# EAGLE library part EP2C5T144 (library fpgas)
EP2C5T144 Auto generated by make-symbol-device-package-bsdl.ulp Rev. 19 Tip: Use split-device-symbol.ulp to generate a Device with multiple small symbols! Read HELP. Source: EP2C5T144.BSD
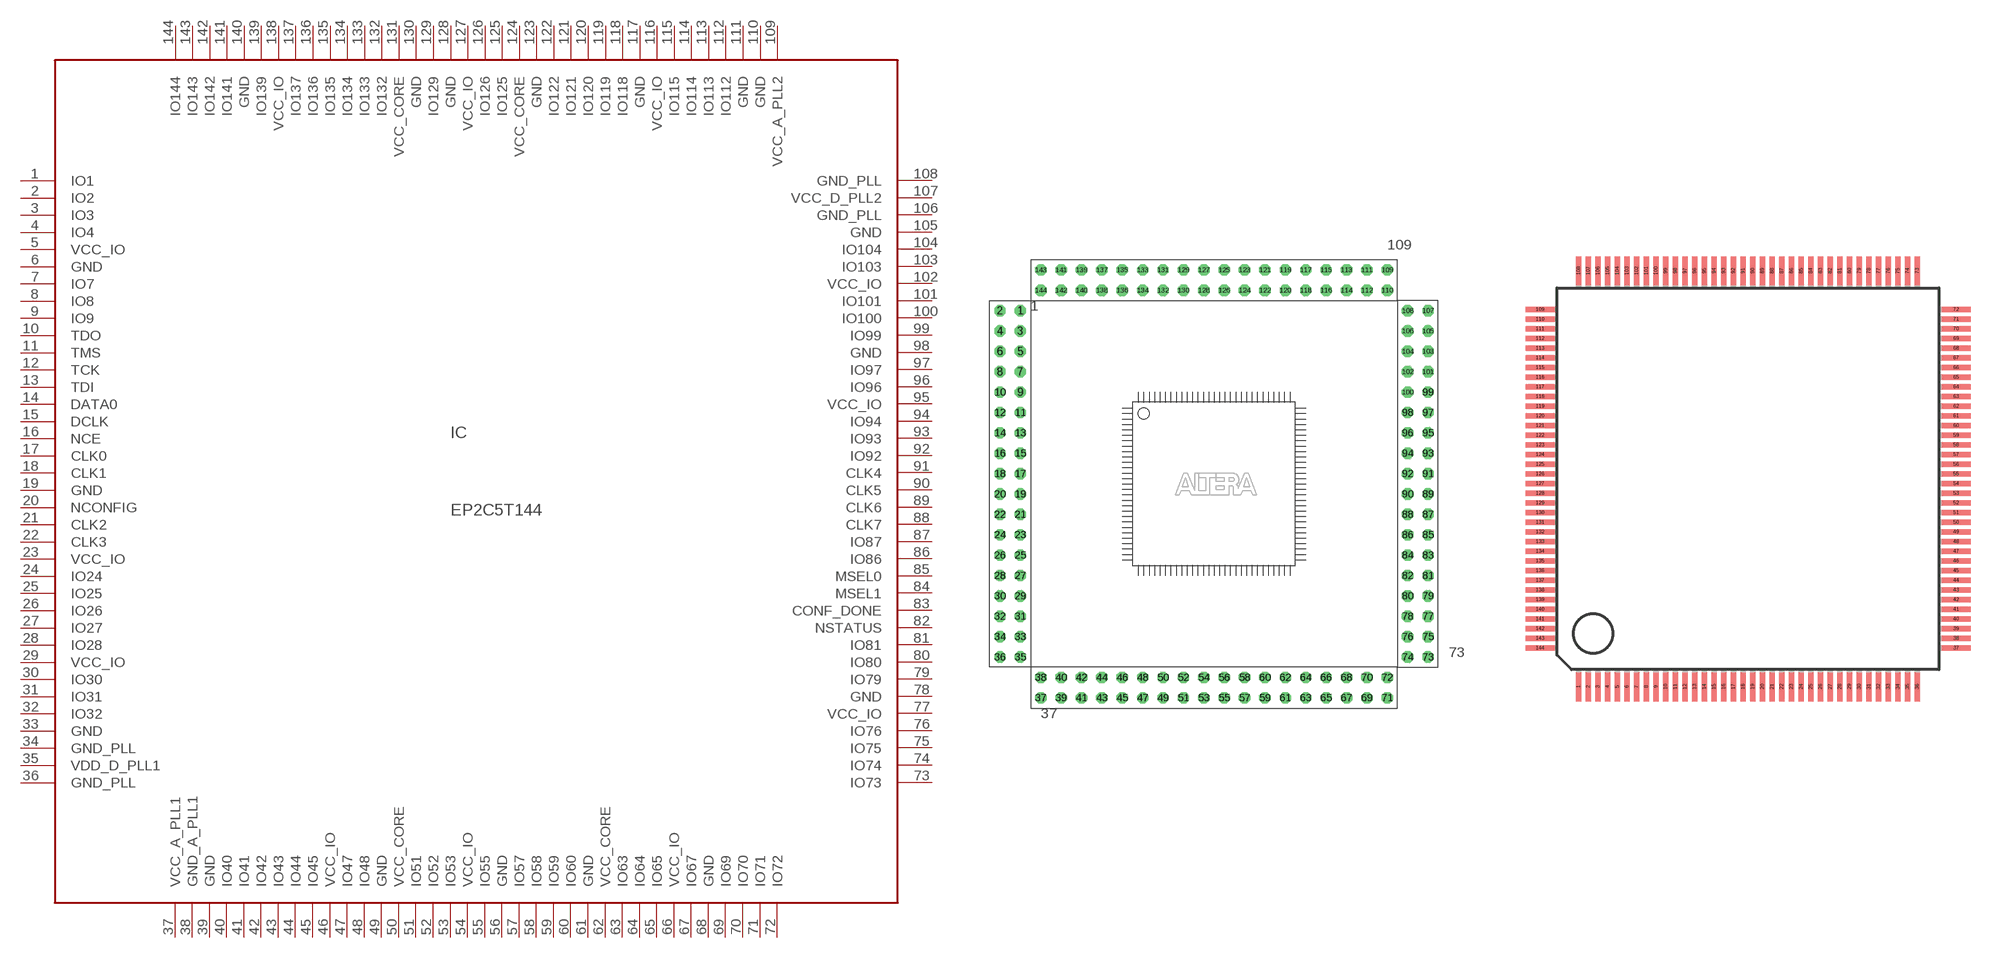
[diagram p2: symbol with the pads of DIP144; footprints DIP144, TQFP144]

Designator prefix IC

## EP2C5T144DIP  [DIP144]
1  IO1  out
2  IO2  out
3  IO3
4  IO4
5  VCC_IO  pwr
6  GND  pwr
7  IO7
8  IO8
9  IO9
10  TDO  out
11  TMS  in
12  TCK  in
13  TDI  in
14  DATA0
15  DCLK
16  NCE  in
17  CLK0
18  CLK1
19  GND  pwr
20  NCONFIG  in
21  CLK2
22  CLK3
23  VCC_IO  pwr
24  IO24
25  IO25
26  IO26
27  IO27
28  IO28
29  VCC_IO  pwr
30  IO30
31  IO31
32  IO32
33  GND  pwr
34  GND_PLL  pwr
35  VDD_D_PLL1  pwr
36  GND_PLL  pwr
37  VCC_A_PLL1  pwr
38  GND_A_PLL1  pwr
39  GND  pwr
40  IO40
41  IO41
42  IO42
43  IO43
44  IO44
45  IO45
46  VCC_IO  pwr
47  IO47
48  IO48
49  GND  pwr
50  VCC_CORE  pwr
51  IO51
52  IO52
53  IO53
54  VCC_IO  pwr
55  IO55
56  GND  pwr
57  IO57
58  IO58
59  IO59
60  IO60
61  GND  pwr
62  VCC_CORE  pwr
63  IO63
64  IO64
65  IO65
66  VCC_IO  pwr
67  IO67
68  GND  pwr
69  IO69
70  IO70
71  IO71
72  IO72
73  IO73
74  IO74
75  IO75
76  IO76
77  VCC_IO  pwr
78  GND  pwr
79  IO79
80  IO80
81  IO81
82  NSTATUS  in
83  CONF_DONE  in
84  MSEL1  in
85  MSEL0  in
86  IO86
87  IO87
88  CLK7
89  CLK6
90  CLK5
91  CLK4
92  IO92
93  IO93
94  IO94
95  VCC_IO  pwr
96  IO96
97  IO97
98  GND  pwr
99  IO99
100  IO100
101  IO101
102  VCC_IO  pwr
103  IO103
104  IO104
105  GND  pwr
106  GND_PLL  pwr
107  VCC_D_PLL2  pwr
108  GND_PLL  pwr
109  VCC_A_PLL2  pwr
110  GND  pwr
111  GND  pwr
112  IO112
113  IO113
114  IO114
115  IO115
116  VCC_IO  pwr
117  GND  pwr
118  IO118
119  IO119
120  IO120
121  IO121
122  IO122
123  GND  pwr
124  VCC_CORE  pwr
125  IO125
126  IO126
127  VCC_IO  pwr
128  GND  pwr
129  IO129
130  GND  pwr
131  VCC_CORE  pwr
132  IO132
133  IO133
134  IO134
135  IO135
136  IO136
137  IO137
138  VCC_IO  pwr
139  IO139
140  GND  pwr
141  IO141
142  IO142
143  IO143
144  IO144

## EP2C5T144TQFP (MPN: EP2C5T144C8N; OC_FARNELL: 1453495; OC_NEWARK: 51R0568)  [TQFP144]
1  VCC_A_PLL1  pwr
2  GND_A_PLL1  pwr
3  GND  pwr
4  IO40
5  IO41
6  IO42
7  IO43
8  IO44
9  IO45
10  VCC_IO  pwr
11  IO47
12  IO48
13  GND  pwr
14  VCC_CORE  pwr
15  IO51
16  IO52
17  IO53
18  VCC_IO  pwr
19  IO55
20  GND  pwr
21  IO57
22  IO58
23  IO59
24  IO60
25  GND  pwr
26  VCC_CORE  pwr
27  IO63
28  IO64
29  IO65
30  VCC_IO  pwr
31  IO67
32  GND  pwr
33  IO69
34  IO70
35  IO71
36  IO72
37  IO73
38  IO74
39  IO75
40  IO76
41  VCC_IO  pwr
42  GND  pwr
43  IO79
44  IO80
45  IO81
46  NSTATUS  in
47  CONF_DONE  in
48  MSEL1  in
49  MSEL0  in
50  IO86
51  IO87
52  CLK7
53  CLK6
54  CLK5
55  CLK4
56  IO92
57  IO93
58  IO94
59  VCC_IO  pwr
60  IO96
61  IO97
62  GND  pwr
63  IO99
64  IO100
65  IO101
66  VCC_IO  pwr
67  IO103
68  IO104
69  GND  pwr
70  GND_PLL  pwr
71  VCC_D_PLL2  pwr
72  GND_PLL  pwr
73  VCC_A_PLL2  pwr
74  GND  pwr
75  GND  pwr
76  IO112
77  IO113
78  IO114
79  IO115
80  VCC_IO  pwr
81  GND  pwr
82  IO118
83  IO119
84  IO120
85  IO121
86  IO122
87  GND  pwr
88  VCC_CORE  pwr
89  IO125
90  IO126
91  VCC_IO  pwr
92  GND  pwr
93  IO129
94  GND  pwr
95  VCC_CORE  pwr
96  IO132
97  IO133
98  IO134
99  IO135
100  IO136
101  IO137
102  VCC_IO  pwr
103  IO139
104  GND  pwr
105  IO141
106  IO142
107  IO143
108  IO144
109  IO1  out
110  IO2  out
111  IO3
112  IO4
113  VCC_IO  pwr
114  GND  pwr
115  IO7
116  IO8
117  IO9
118  TDO  out
119  TMS  in
120  TCK  in
121  TDI  in
122  DATA0
123  DCLK
124  NCE  in
125  CLK0
126  CLK1
127  GND  pwr
128  NCONFIG  in
129  CLK2
130  CLK3
131  VCC_IO  pwr
132  IO24
133  IO25
134  IO26
135  IO27
136  IO28
137  VCC_IO  pwr
138  IO30
139  IO31
140  IO32
141  GND  pwr
142  GND_PLL  pwr
143  VDD_D_PLL1  pwr
144  GND_PLL  pwr

## Footprint DIP144 (pad centres in mm)
drill 0.6 pad 1.422 octagon: 1 -24.13,21.59; 2 -26.67,21.59; 3 -24.13,19.05; 4 -26.67,19.05; 5 -24.13,16.51; 6 -26.67,16.51; 7 -24.13,13.97; 8 -26.67,13.97; 9 -24.13,11.43; 10 -26.67,11.43; 11 -24.13,8.89; 12 -26.67,8.89; 13 -24.13,6.35; 14 -26.67,6.35; 15 -24.13,3.81; 16 -26.67,3.81; 17 -24.13,1.27; 18 -26.67,1.27; 19 -24.13,-1.27; 20 -26.67,-1.27; 21 -24.13,-3.81; 22 -26.67,-3.81; 23 -24.13,-6.35; 24 -26.67,-6.35; 25 -24.13,-8.89; 26 -26.67,-8.89; 27 -24.13,-11.43; 28 -26.67,-11.43; 29 -24.13,-13.97; 30 -26.67,-13.97; 31 -24.13,-16.51; 32 -26.67,-16.51; 33 -24.13,-19.05; 34 -26.67,-19.05; 35 -24.13,-21.59; 36 -26.67,-21.59; 37 -21.59,-26.67; 38 -21.59,-24.13; 39 -19.05,-26.67; 40 -19.05,-24.13; 41 -16.51,-26.67; 42 -16.51,-24.13; 43 -13.97,-26.67; 44 -13.97,-24.13; 45 -11.43,-26.67; 46 -11.43,-24.13; 47 -8.89,-26.67; 48 -8.89,-24.13; 49 -6.35,-26.67; 50 -6.35,-24.13; 51 -3.81,-26.67; 52 -3.81,-24.13; 53 -1.27,-26.67; 54 -1.27,-24.13; 55 1.27,-26.67; 56 1.27,-24.13; 57 3.81,-26.67; 58 3.81,-24.13; 59 6.35,-26.67; 60 6.35,-24.13; 61 8.89,-26.67; 62 8.89,-24.13; 63 11.43,-26.67; 64 11.43,-24.13; 65 13.97,-26.67; 66 13.97,-24.13; 67 16.51,-26.67; 68 16.51,-24.13; 69 19.05,-26.67; 70 19.05,-24.13; 71 21.59,-26.67; 72 21.59,-24.13; 73 26.67,-21.59; 74 24.13,-21.59; 75 26.67,-19.05; 76 24.13,-19.05; 77 26.67,-16.51; 78 24.13,-16.51; 79 26.67,-13.97; 80 24.13,-13.97; 81 26.67,-11.43; 82 24.13,-11.43; 83 26.67,-8.89; 84 24.13,-8.89; 85 26.67,-6.35; 86 24.13,-6.35; 87 26.67,-3.81; 88 24.13,-3.81; 89 26.67,-1.27; 90 24.13,-1.27; 91 26.67,1.27; 92 24.13,1.27; 93 26.67,3.81; 94 24.13,3.81; 95 26.67,6.35; 96 24.13,6.35; 97 26.67,8.89; 98 24.13,8.89; 99 26.67,11.43; 100 24.13,11.43; 101 26.67,13.97; 102 24.13,13.97; 103 26.67,16.51; 104 24.13,16.51; 105 26.67,19.05; 106 24.13,19.05; 107 26.67,21.59; 108 24.13,21.59; 109 21.59,26.67; 110 21.59,24.13; 111 19.05,26.67; 112 19.05,24.13; 113 16.51,26.67; 114 16.51,24.13; 115 13.97,26.67; 116 13.97,24.13; 117 11.43,26.67; 118 11.43,24.13; 119 8.89,26.67; 120 8.89,24.13; 121 6.35,26.67; 122 6.35,24.13; 123 3.81,26.67; 124 3.81,24.13; 125 1.27,26.67; 126 1.27,24.13; 127 -1.27,26.67; 128 -1.27,24.13; 129 -3.81,26.67; 130 -3.81,24.13; 131 -6.35,26.67; 132 -6.35,24.13; 133 -8.89,26.67; 134 -8.89,24.13; 135 -11.43,26.67; 136 -11.43,24.13; 137 -13.97,26.67; 138 -13.97,24.13; 139 -16.51,26.67; 140 -16.51,24.13; 141 -19.05,26.67; 142 -19.05,24.13; 143 -21.59,26.67; 144 -21.59,24.13

## Footprint TQFP144 (pad centres in mm)
Thin Quad Flat Pack
smd 0.27 x 1.5: 1 -8.75,-10.75; 2 -8.25,-10.75; 3 -7.75,-10.75; 4 -7.25,-10.75; 5 -6.75,-10.75; 6 -6.25,-10.75; 7 -5.75,-10.75; 8 -5.25,-10.75; 9 -4.75,-10.75; 10 -4.25,-10.75; 11 -3.75,-10.75; 12 -3.25,-10.75; 13 -2.75,-10.75; 14 -2.25,-10.75; 15 -1.75,-10.75; 16 -1.25,-10.75; 17 -0.75,-10.75; 18 -0.25,-10.75; 19 0.25,-10.75; 20 0.75,-10.75; 21 1.25,-10.75; 22 1.75,-10.75; 23 2.25,-10.75; 24 2.75,-10.75; 25 3.25,-10.75; 26 3.75,-10.75; 27 4.25,-10.75; 28 4.75,-10.75; 29 5.25,-10.75; 30 5.75,-10.75; 31 6.25,-10.75; 32 6.75,-10.75; 33 7.25,-10.75; 34 7.75,-10.75; 35 8.25,-10.75; 36 8.75,-10.75; 73 8.75,10.75; 74 8.25,10.75; 75 7.75,10.75; 76 7.25,10.75; 77 6.75,10.75; 78 6.25,10.75; 79 5.75,10.75; 80 5.25,10.75; 81 4.75,10.75; 82 4.25,10.75; 83 3.75,10.75; 84 3.25,10.75; 85 2.75,10.75; 86 2.25,10.75; 87 1.75,10.75; 88 1.25,10.75; 89 0.75,10.75; 90 0.25,10.75; 91 -0.25,10.75; 92 -0.75,10.75; 93 -1.25,10.75; 94 -1.75,10.75; 95 -2.25,10.75; 96 -2.75,10.75; 97 -3.25,10.75; 98 -3.75,10.75; 99 -4.25,10.75; 100 -4.75,10.75; 101 -5.25,10.75; 102 -5.75,10.75; 103 -6.25,10.75; 104 -6.75,10.75; 105 -7.25,10.75; 106 -7.75,10.75; 107 -8.25,10.75; 108 -8.75,10.75
smd 1.5 x 0.27: 37 10.75,-8.75; 38 10.75,-8.25; 39 10.75,-7.75; 40 10.75,-7.25; 41 10.75,-6.75; 42 10.75,-6.25; 43 10.75,-5.75; 44 10.75,-5.25; 45 10.75,-4.75; 46 10.75,-4.25; 47 10.75,-3.75; 48 10.75,-3.25; 49 10.75,-2.75; 50 10.75,-2.25; 51 10.75,-1.75; 52 10.75,-1.25; 53 10.75,-0.75; 54 10.75,-0.25; 55 10.75,0.25; 56 10.75,0.75; 57 10.75,1.25; 58 10.75,1.75; 59 10.75,2.25; 60 10.75,2.75; 61 10.75,3.25; 62 10.75,3.75; 63 10.75,4.25; 64 10.75,4.75; 65 10.75,5.25; 66 10.75,5.75; 67 10.75,6.25; 68 10.75,6.75; 69 10.75,7.25; 70 10.75,7.75; 71 10.75,8.25; 72 10.75,8.75; 109 -10.75,8.75; 110 -10.75,8.25; 111 -10.75,7.75; 112 -10.75,7.25; 113 -10.75,6.75; 114 -10.75,6.25; 115 -10.75,5.75; 116 -10.75,5.25; 117 -10.75,4.75; 118 -10.75,4.25; 119 -10.75,3.75; 120 -10.75,3.25; 121 -10.75,2.75; 122 -10.75,2.25; 123 -10.75,1.75; 124 -10.75,1.25; 125 -10.75,0.75; 126 -10.75,0.25; 127 -10.75,-0.25; 128 -10.75,-0.75; 129 -10.75,-1.25; 130 -10.75,-1.75; 131 -10.75,-2.25; 132 -10.75,-2.75; 133 -10.75,-3.25; 134 -10.75,-3.75; 135 -10.75,-4.25; 136 -10.75,-4.75; 137 -10.75,-5.25; 138 -10.75,-5.75; 139 -10.75,-6.25; 140 -10.75,-6.75; 141 -10.75,-7.25; 142 -10.75,-7.75; 143 -10.75,-8.25; 144 -10.75,-8.75